# Altium footprint library VariableResistorPCB.PcbLib: 1 footprints
Each footprint in its own frame and in the unit in brackets; x right, y up, seen from the top. Pads: shape width x height; smd on the part's side, far side on the other; paste and mask are expansions set on the pad; w line width, h text height; cw(c..) or ccw(c..) is an arc to the next point about the centre after c.
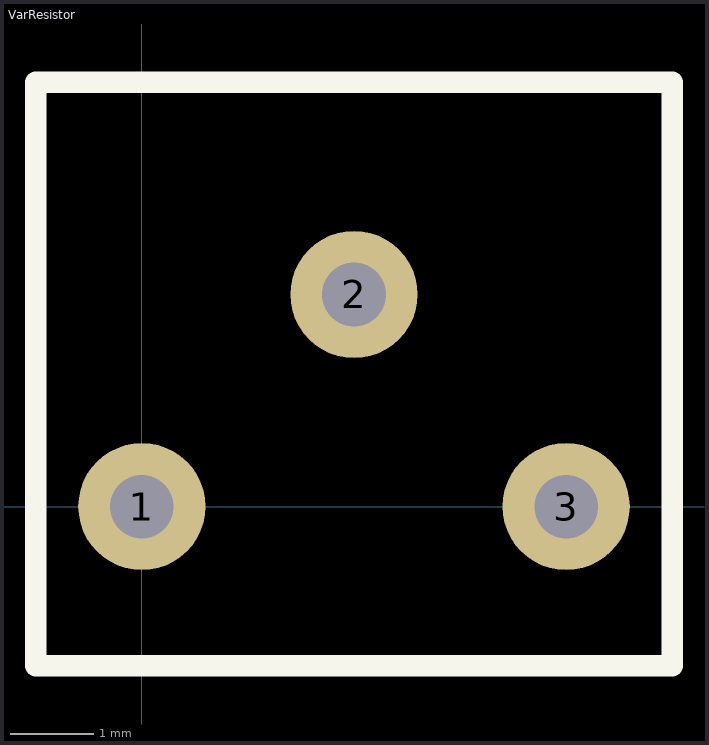
[diagram p0: the footprint, top view; thin cyan lines are the x and y axes]

## VarResistor [mil]
height 200
pads (3):
  round 60 hole 30: 1(0,0) 2(100,100) 3(200,0)
Top Overlay:
  lines w10: -50,-75 -50,200 250,200 250,-75 -50,-75